# EAGLE library part TI-HDMI-TFP410 (library duraTerm)
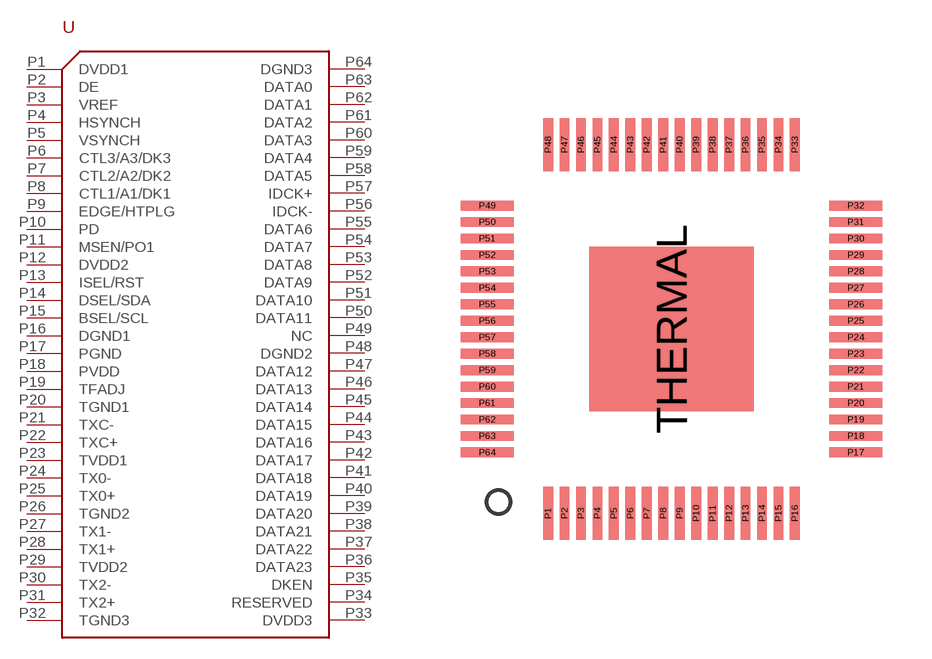
[diagram p0: symbol with the pads of S-PQFP-G64; footprint S-PQFP-G64]

Designator prefix U

## TI-HDMI-TFP410  [S-PQFP-G64]
P1  DVDD1  pwr
P2  DE
P3  VREF
P4  HSYNCH
P5  VSYNCH
P6  CTL3/A3/DK3
P7  CTL2/A2/DK2
P8  CTL1/A1/DK1
P9  EDGE/HTPLG
P10  PD
P11  MSEN/PO1
P12  DVDD2  pwr
P13  ISEL/RST
P14  DSEL/SDA
P15  BSEL/SCL
P16  DGND1
P17  PGND
P18  PVDD
P19  TFADJ
P20  TGND1
P21  TXC-
P22  TXC+
P23  TVDD1
P24  TX0-
P25  TX0+
P26  TGND2
P27  TX1-
P28  TX1+
P29  TVDD2
P30  TX2-
P31  TX2+
P32  TGND3
P33  DVDD3
P34  RESERVED
P35  DKEN
P36  DATA23
P37  DATA22
P38  DATA21
P39  DATA20
P40  DATA19
P41  DATA18
P42  DATA17
P43  DATA16
P44  DATA15
P45  DATA14
P46  DATA13
P47  DATA12
P48  DGND2
P49  NC
P50  DATA11
P51  DATA10
P52  DATA9
P53  DATA8
P54  DATA7
P55  DATA6
P56  IDCK-
P57  IDCK+
P58  DATA5
P59  DATA4
P60  DATA3
P61  DATA2
P62  DATA1
P63  DATA0
P64  DGND3

## Footprint S-PQFP-G64 (pad centres in mm)
smd 0.3 x 1.6: P1 -3.75,-5.6; P2 -3.25,-5.6; P3 -2.75,-5.6; P4 -2.25,-5.6; P5 -1.75,-5.6; P6 -1.25,-5.6; P7 -0.75,-5.6; P8 -0.25,-5.6; P9 0.25,-5.6; P10 0.75,-5.6; P11 1.25,-5.6; P12 1.75,-5.6; P13 2.25,-5.6; P14 2.75,-5.6; P15 3.25,-5.6; P16 3.75,-5.6; P33 3.75,5.6; P34 3.25,5.6; P35 2.75,5.6; P36 2.25,5.6; P37 1.75,5.6; P38 1.25,5.6; P39 0.75,5.6; P40 0.25,5.6; P41 -0.25,5.6; P42 -0.75,5.6; P43 -1.25,5.6; P44 -1.75,5.6; P45 -2.25,5.6; P46 -2.75,5.6; P47 -3.25,5.6; P48 -3.75,5.6
smd 1.6 x 0.3: P17 5.6,-3.75; P18 5.6,-3.25; P19 5.6,-2.75; P20 5.6,-2.25; P21 5.6,-1.75; P22 5.6,-1.25; P23 5.6,-0.75; P24 5.6,-0.25; P25 5.6,0.25; P26 5.6,0.75; P27 5.6,1.25; P28 5.6,1.75; P29 5.6,2.25; P30 5.6,2.75; P31 5.6,3.25; P32 5.6,3.75; P49 -5.6,3.75; P50 -5.6,3.25; P51 -5.6,2.75; P52 -5.6,2.25; P53 -5.6,1.75; P54 -5.6,1.25; P55 -5.6,0.75; P56 -5.6,0.25; P57 -5.6,-0.25; P58 -5.6,-0.75; P59 -5.6,-1.25; P60 -5.6,-1.75; P61 -5.6,-2.25; P62 -5.6,-2.75; P63 -5.6,-3.25; P64 -5.6,-3.75
smd 5 x 5: THERMAL 0,0